# Altium footprint library KMDGX8SN.PcbLib: 1 footprints
Each footprint in its own frame and in the unit in brackets; x right, y up, seen from the top. Pads: shape width x height; smd on the part's side, far side on the other; paste and mask are expansions set on the pad; w line width, h text height; cw(c..) or ccw(c..) is an arc to the next point about the centre after c.
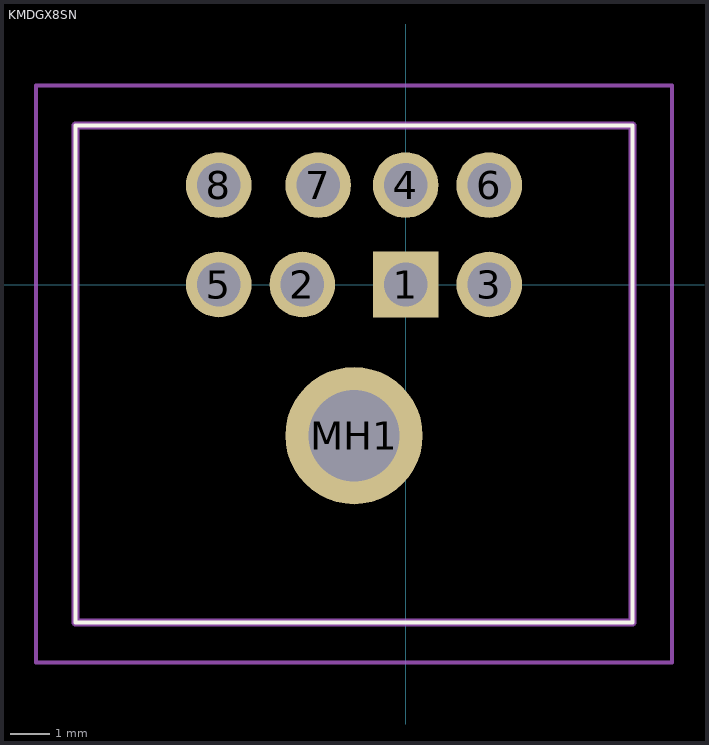
[diagram p0: the footprint, top view; thin cyan lines are the x and y axes]

## KMDGX8SN [mm]
pads (9):
  rect 1.65x1.65 hole 1.1: 1(0,0)
  round 1.65 hole 1.1: 2(-2.6,0) 3(2.1,0) 4(0,2.5) 5(-4.7,0) 6(2.1,2.5) 7(-2.2,2.5) 8(-4.7,2.5)
  round 3.45 hole 2.3: MH1(-1.3,-3.8)
Top Overlay:
  lines w0.1: -8.3,-8.5 5.7,-8.5 5.7,4 -8.3,4 -8.3,-8.5
Mechanical 15:
  lines w0.2: -8.3,-8.5 5.7,-8.5 5.7,4 -8.3,4 -8.3,-8.5
Mechanical 20:
  lines w0.1: -9.3,-9.5 6.7,-9.5 6.7,5 -9.3,5 -9.3,-9.5